# Altium integrated library TI Interface Isolator.IntLib: 140 symbols (part 1 of 6)
Pins are listed as number, name and electrical type; pins without a type are passive.

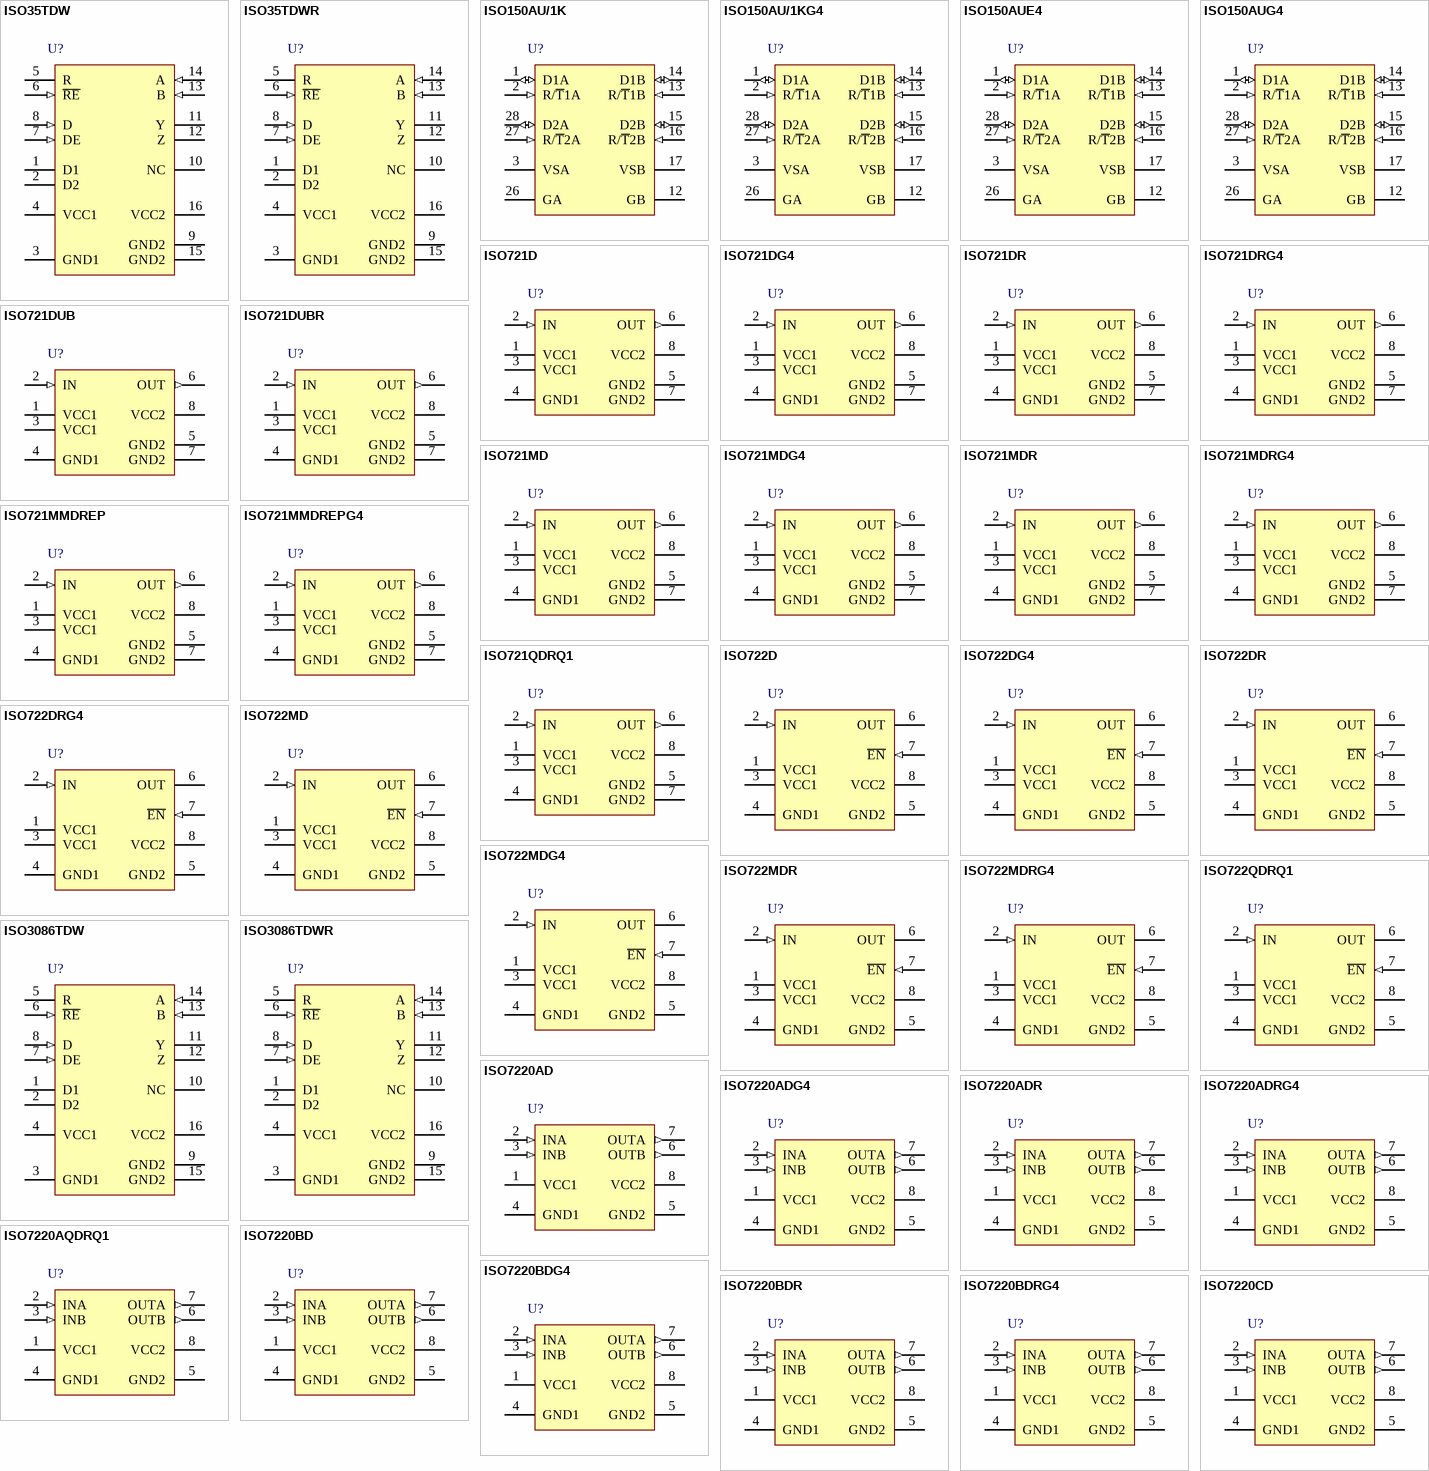
[diagram p0: symbols ISO35TDW to ISO7220CD]

## ISO35TDW
designator U?
1 Mbps Isolated 3 V 485 Transceiver with Integrated Transformer Driver, 3.3 V, -40 to +85 degC, 16-pin SOIC (DW), Green (RoHS & no Sb/Br); Manufacturer: Texas Instruments; PartNumber: ISO35TDW; # of TX/RX: 1 TX / 1 RX; Datarate(Mbps): 1; Duplex: Full; ESD(kV): 16; Fail Safe: Idle, Open, Short; Fault Protection(V): -9 to 14; ICC(Max)(mA): 27; Insulation Rating(VRMS): 2500; Isolated: Yes; Number of Nodes: 256; Rating: Catalog; SubFamily: Isolator; Supply Voltage(s)(V): 3.3; TTL/CMOS Input Threshold: TTL; VCC(Max)(V): 3.6; VCC(Min)(V): 3; DatasheetVersion: SLLSE26C; PackageVersion: 4040000-2/G, 01/2011; PackageReference: DW0016A; PackageDescription: 16-Pin Plastic Small Outline, Body 10.30 x 7.50 mm, Pitch 1.27 mm; Supplier 1: Digi-Key; Supplier Part Number 1: 296-28360-5-ND; Supplier 2: Newark; Supplier Part Number 2: 40T4824; Supplier 3: Mouser; Supplier Part Number 3: 595-ISO35TDW; Thermal Shutdown: Yes; MountType: SMT; Code_JEDEC: MS-013; ComponentLink1Description: Manufacturer URL; ComponentLink1URL: http://www.ti.com/; ComponentLink2Description: Datasheet; ComponentLink2URL: http://www.ti.com/general/docs/lit/getliterature.tsp?genericPartNumber=ISO35T&fileType=pdf; ComponentLink3Description: Package Specification; ComponentLink3URL: http://www.ti.com/litv/pdf/msoi003g; ComponentLink4Description: SamplesURL; ComponentLink4URL: http://www.ti.com/product/iso35t#samples
footprint DW0016A_N (SOIC, 16-Leads, Body 10.5x7.6mm, Pitch 1.27mm, IPC Medium Density)
footprint DW0016A_L (SOIC, 16-Leads, Body 10.5x7.6mm, Pitch 1.27mm, IPC High Density)
footprint DW0016A_M (SOIC, 16-Leads, Body 10.5x7.6mm, Pitch 1.27mm, IPC Low Density)
pins: 1 D1 (oc) "Transformer Driver Terminal 1, Open Drain Output", 2 D2 (oc) "Transformer Driver Terminal 2, Open Drain Output", 3 GND1 (power) "Logic-side Ground", 4 VCC1 (power) "Logic-side Power Supply", 5 R (hiz) "Receiver Output", 6 ~{RE} (in) "Receiver Enable Input. This pin has complementary logic.", 7 DE (in) "Driver Enable Input", 8 D (in) "Driver Input", 9 GND2 (power) "Bus-side Ground. Both pins are internally connected.", 10 NC "No Connect. This pin is not connected to any internal circuitry.", 11 Y (hiz) "Non-inverting Driver Output", 12 Z (hiz) "Inverting Driver Output", 13 B (in) "Inverting Receiver Input", 14 A (in) "Non-inverting Receiver Input", 15 GND2 (power) "Bus-side Ground. Both pins are internally connected.", 16 VCC2 (power) "Bus-side Power Supply"

## ISO35TDWR
designator U?
1 Mbps Isolated 3 V 485 Transceiver with Integrated Transformer Driver, 3.3 V, -40 to +85 degC, 16-pin SOIC (DW), Green (RoHS & no Sb/Br); Manufacturer: Texas Instruments; PartNumber: ISO35TDWR; # of TX/RX: 1 TX / 1 RX; Datarate(Mbps): 1; Duplex: Full; ESD(kV): 16; Fail Safe: Idle, Open, Short; Fault Protection(V): -9 to 14; ICC(Max)(mA): 27; Insulation Rating(VRMS): 2500; Isolated: Yes; Number of Nodes: 256; Rating: Catalog; SubFamily: Isolator; Supply Voltage(s)(V): 3.3; TTL/CMOS Input Threshold: TTL; VCC(Max)(V): 3.6; VCC(Min)(V): 3; DatasheetVersion: SLLSE26C; PackageVersion: 4040000-2/G, 01/2011; PackageReference: DW0016A; PackageDescription: 16-Pin Plastic Small Outline, Body 10.30 x 7.50 mm, Pitch 1.27 mm; Supplier 1: Digi-Key; Supplier Part Number 1: ISO35TDWR-ND; Supplier 2: Newark; Supplier Part Number 2: 40T4825; Supplier 3: Mouser; Supplier Part Number 3: 595-ISO35TDWR; Thermal Shutdown: Yes; MountType: SMT; Code_JEDEC: MS-013; ComponentLink1Description: Manufacturer URL; ComponentLink1URL: http://www.ti.com/; ComponentLink2Description: Datasheet; ComponentLink2URL: http://www.ti.com/general/docs/lit/getliterature.tsp?genericPartNumber=ISO35T&fileType=pdf; ComponentLink3Description: Package Specification; ComponentLink3URL: http://www.ti.com/litv/pdf/msoi003g; ComponentLink4Description: SamplesURL; ComponentLink4URL: http://www.ti.com/product/iso35t#samples
footprint DW0016A_N (SOIC, 16-Leads, Body 10.5x7.6mm, Pitch 1.27mm, IPC Medium Density)
footprint DW0016A_L (SOIC, 16-Leads, Body 10.5x7.6mm, Pitch 1.27mm, IPC High Density)
footprint DW0016A_M (SOIC, 16-Leads, Body 10.5x7.6mm, Pitch 1.27mm, IPC Low Density)
pins: 1 D1 (oc) "Transformer Driver Terminal 1, Open Drain Output", 2 D2 (oc) "Transformer Driver Terminal 2, Open Drain Output", 3 GND1 (power) "Logic-side Ground", 4 VCC1 (power) "Logic-side Power Supply", 5 R (hiz) "Receiver Output", 6 ~{RE} (in) "Receiver Enable Input. This pin has complementary logic.", 7 DE (in) "Driver Enable Input", 8 D (in) "Driver Input", 9 GND2 (power) "Bus-side Ground. Both pins are internally connected.", 10 NC "No Connect. This pin is not connected to any internal circuitry.", 11 Y (hiz) "Non-inverting Driver Output", 12 Z (hiz) "Inverting Driver Output", 13 B (in) "Inverting Receiver Input", 14 A (in) "Non-inverting Receiver Input", 15 GND2 (power) "Bus-side Ground. Both pins are internally connected.", 16 VCC2 (power) "Bus-side Power Supply"

## ISO150AU/1K
designator U?
80 Mbps Dual, Isolated, Bi-Directional Digital Coupler, 5 V, 12-pin SOP (DVB), Green (RoHS & no Sb/Br); Manufacturer: Texas Instruments; PartNumber: ISO150AU/1K; Datarate(Mbps): 80; Input Noise Filter: None; Insulation Rating(VRMS): 1500; Prop Delay(Max)(ns): 40; Rating: Catalog; SubFamily: Isolator; Supply Voltage(s)(V): 5; TTL/CMOS Input Threshold: TTL; DatasheetVersion: SBOS032D; PackageVersion: 4202104/B, 11/2001; PackageReference: DVB0012A; PackageDescription: 12-Pin Plastic Small Outline, Body 17.9 x 7.5 mm; Supplier 1: Digi-Key; Supplier Part Number 1: 296-28835-2-ND; Supplier 2: Digi-Key; Supplier Part Number 2: 296-28835-1-ND; Supplier 3: Digi-Key; Supplier Part Number 3: 296-28835-6-ND; Supplier 4: Newark; Supplier Part Number 4: 32H5680; Supplier 5: Mouser; Supplier Part Number 5: 595-ISO150AU/1K; Thermal Shutdown: No; MountType: SMT; Code_JEDEC: MS-013-AE; ComponentLink1Description: Manufacturer URL; ComponentLink1URL: http://www.ti.com/; ComponentLink2Description: Datasheet; ComponentLink2URL: http://www.ti.com/general/docs/lit/getliterature.tsp?genericPartNumber=ISO150&fileType=pdf; ComponentLink3Description: Package Specification; ComponentLink3URL: http://www.ti.com/lit/ml/mpds106a/mpds106a.pdf; ComponentLink4Description: SamplesURL; ComponentLink4URL: http://www.ti.com/product/iso150#samples
footprint DVB0012A_N (SOP, 12-Leads, Body 17.9x7.5mm, Pitch 1.27mm, IPC Medium Density)
footprint DVB0012A_L (SOP, 12-Leads, Body 17.9x7.5mm, Pitch 1.27mm, IPC High Density)
footprint DVB0012A_M (SOP, 12-Leads, Body 17.9x7.5mm, Pitch 1.27mm, IPC Low Density)
pins: 1 D1A (io) "Data in or data out for transceiver 1A, R/T\1\A \held low makes D1A an input pin", 2 R/~{T}1A (in) "Receive/transmit switch controlling transceiver 1A.", 3 VSA (power) "+5V supply pin for side A, which powers transceivers 1A and 2A.", 12 GB (power) "Ground pin for transceivers 1B and 2B.", 13 R/~{T}1B (in) "Receive/transmit switch controlling transceiver 1B.", 14 D1B (io) "Data in or data out for transceiver 1B. R/T\1\B\ held LOW makes D1B an input pin.", 15 D2B (io) "Data in or data out for transceiver 2B. R/T\2\B\ held LOW makes D2B an input pin.", 16 R/~{T}2B (in) "Receive/transmit switch controlling D2B.", 17 VSB (power) "+5V supply pin for side B, which powers transceivers 1B and 2B.", 26 GA (power) "Ground pin for transceivers 1A and 2A.", 27 R/~{T}2A (in) "Receive/transmit switch controlling transceiver 2A.", 28 D2A (io) "Data in or data out for transceiver 2A, R/T\2\1\A \held low makes D2A an input pin"

## ISO150AU/1KG4
designator U?
Dual, Isolated, Bi-Directional Digital Coupler, 80 Mbps, 5 V, -40 to +85 degC, 12-pin SOP (DVB), Green (RoHS & no Sb/Br); Manufacturer: Texas Instruments; PartNumber: ISO150AU/1KG4; Datarate(Mbps): 80; Input Noise Filter: None; Insulation Rating(VRMS): 1500; Prop Delay(Max)(ns): 40; Rating: Catalog; SubFamily: Isolator; Supply Voltage(s)(V): 5; TTL/CMOS Input Threshold: TTL; DatasheetVersion: SBOS032D; PackageVersion: 4202104/B, 11/2001; PackageReference: DVB0012A; PackageDescription: 12-Pin Plastic Small Outline, Body 17.9 x 7.5 mm; Supplier 1: Digi-Key; Supplier Part Number 1: ISO150AU/1KG4-ND; Supplier 2: Mouser; Supplier Part Number 2: 595-ISO150AU/1KG4; Thermal Shutdown: No; MountType: SMT; Code_JEDEC: MS-013-AE; ComponentLink1Description: Manufacturer URL; ComponentLink1URL: http://www.ti.com/; ComponentLink2Description: Datasheet; ComponentLink2URL: http://www.ti.com/general/docs/lit/getliterature.tsp?genericPartNumber=ISO150&fileType=pdf; ComponentLink3Description: Package Specification; ComponentLink3URL: http://www.ti.com/lit/ml/mpds106a/mpds106a.pdf; ComponentLink4Description: SamplesURL; ComponentLink4URL: http://www.ti.com/product/iso150#samples
footprint DVB0012A_N (SOP, 12-Leads, Body 17.9x7.5mm, Pitch 1.27mm, IPC Medium Density)
footprint DVB0012A_L (SOP, 12-Leads, Body 17.9x7.5mm, Pitch 1.27mm, IPC High Density)
footprint DVB0012A_M (SOP, 12-Leads, Body 17.9x7.5mm, Pitch 1.27mm, IPC Low Density)
pins: 1 D1A (io) "Data in or data out for transceiver 1A, R/T\1\A \held low makes D1A an input pin", 2 R/~{T}1A (in) "Receive/transmit switch controlling transceiver 1A.", 3 VSA (power) "+5V supply pin for side A, which powers transceivers 1A and 2A.", 12 GB (power) "Ground pin for transceivers 1B and 2B.", 13 R/~{T}1B (in) "Receive/transmit switch controlling transceiver 1B.", 14 D1B (io) "Data in or data out for transceiver 1B. R/T\1\B\ held LOW makes D1B an input pin.", 15 D2B (io) "Data in or data out for transceiver 2B. R/T\2\B\ held LOW makes D2B an input pin.", 16 R/~{T}2B (in) "Receive/transmit switch controlling D2B.", 17 VSB (power) "+5V supply pin for side B, which powers transceivers 1B and 2B.", 26 GA (power) "Ground pin for transceivers 1A and 2A.", 27 R/~{T}2A (in) "Receive/transmit switch controlling transceiver 2A.", 28 D2A (io) "Data in or data out for transceiver 2A, R/T\2\1\A \held low makes D2A an input pin"

## ISO150AUE4
designator U?
Dual, Isolated, Bi-Directional Digital Coupler, 80 Mbps, 5 V, -40 to +85 degC, 12-pin SOP (DVB), Green (RoHS & no Sb/Br); Manufacturer: Texas Instruments; PartNumber: ISO150AUE4; Datarate(Mbps): 80; Input Noise Filter: None; Insulation Rating(VRMS): 1500; Prop Delay(Max)(ns): 40; Rating: Catalog; SubFamily: Isolator; Supply Voltage(s)(V): 5; TTL/CMOS Input Threshold: TTL; DatasheetVersion: SBOS032D; PackageVersion: 4202104/B, 11/2001; PackageReference: DVB0012A; PackageDescription: 12-Pin Plastic Small Outline, Body 17.9 x 7.5 mm; Supplier 1: Digi-Key; Supplier Part Number 1: ISO150AUE4-ND; Supplier 2: Mouser; Supplier Part Number 2: 595-ISO150AUE4; Thermal Shutdown: No; MountType: SMT; Code_JEDEC: MS-013-AE; ComponentLink1Description: Manufacturer URL; ComponentLink1URL: http://www.ti.com/; ComponentLink2Description: Datasheet; ComponentLink2URL: http://www.ti.com/general/docs/lit/getliterature.tsp?genericPartNumber=ISO150&fileType=pdf; ComponentLink3Description: Package Specification; ComponentLink3URL: http://www.ti.com/lit/ml/mpds106a/mpds106a.pdf; ComponentLink4Description: SamplesURL; ComponentLink4URL: http://www.ti.com/product/iso150#samples
footprint DVB0012A_N (SOP, 12-Leads, Body 17.9x7.5mm, Pitch 1.27mm, IPC Medium Density)
footprint DVB0012A_L (SOP, 12-Leads, Body 17.9x7.5mm, Pitch 1.27mm, IPC High Density)
footprint DVB0012A_M (SOP, 12-Leads, Body 17.9x7.5mm, Pitch 1.27mm, IPC Low Density)
pins: 1 D1A (io) "Data in or data out for transceiver 1A, R/T\1\A \held low makes D1A an input pin", 2 R/~{T}1A (in) "Receive/transmit switch controlling transceiver 1A.", 3 VSA (power) "+5V supply pin for side A, which powers transceivers 1A and 2A.", 12 GB (power) "Ground pin for transceivers 1B and 2B.", 13 R/~{T}1B (in) "Receive/transmit switch controlling transceiver 1B.", 14 D1B (io) "Data in or data out for transceiver 1B. R/T\1\B\ held LOW makes D1B an input pin.", 15 D2B (io) "Data in or data out for transceiver 2B. R/T\2\B\ held LOW makes D2B an input pin.", 16 R/~{T}2B (in) "Receive/transmit switch controlling D2B.", 17 VSB (power) "+5V supply pin for side B, which powers transceivers 1B and 2B.", 26 GA (power) "Ground pin for transceivers 1A and 2A.", 27 R/~{T}2A (in) "Receive/transmit switch controlling transceiver 2A.", 28 D2A (io) "Data in or data out for transceiver 2A, R/T\2\1\A \held low makes D2A an input pin"

## ISO150AUG4
designator U?
Dual, Isolated, Bi-Directional Digital Coupler, 80 Mbps, 5 V, -40 to +85 degC, 12-pin SOP (DVB), Green (RoHS & no Sb/Br); Manufacturer: Texas Instruments; PartNumber: ISO150AUG4; Datarate(Mbps): 80; Input Noise Filter: None; Insulation Rating(VRMS): 1500; Prop Delay(Max)(ns): 40; Rating: Catalog; SubFamily: Isolator; Supply Voltage(s)(V): 5; TTL/CMOS Input Threshold: TTL; DatasheetVersion: SBOS032D; PackageVersion: 4202104/B, 11/2001; PackageReference: DVB0012A; PackageDescription: 12-Pin Plastic Small Outline, Body 17.9 x 7.5 mm; Supplier 1: Digi-Key; Supplier Part Number 1: ISO150AUG4-ND; Supplier 2: Farnell; Supplier Part Number 2: 1206917; Supplier 3: Newark; Supplier Part Number 3: 97K2531; Supplier 4: Newark; Supplier Part Number 4: 40K6952; Supplier 5: Mouser; Supplier Part Number 5: 595-ISO150AUG4; Thermal Shutdown: No; MountType: SMT; Code_JEDEC: MS-013-AE; ComponentLink1Description: Manufacturer URL; ComponentLink1URL: http://www.ti.com/; ComponentLink2Description: Datasheet; ComponentLink2URL: http://www.ti.com/general/docs/lit/getliterature.tsp?genericPartNumber=ISO150&fileType=pdf; ComponentLink3Description: Package Specification; ComponentLink3URL: http://www.ti.com/lit/ml/mpds106a/mpds106a.pdf; ComponentLink4Description: SamplesURL; ComponentLink4URL: http://www.ti.com/product/iso150#samples
footprint DVB0012A_N (SOP, 12-Leads, Body 17.9x7.5mm, Pitch 1.27mm, IPC Medium Density)
footprint DVB0012A_L (SOP, 12-Leads, Body 17.9x7.5mm, Pitch 1.27mm, IPC High Density)
footprint DVB0012A_M (SOP, 12-Leads, Body 17.9x7.5mm, Pitch 1.27mm, IPC Low Density)
pins: 1 D1A (io) "Data in or data out for transceiver 1A, R/T\1\A \held low makes D1A an input pin", 2 R/~{T}1A (in) "Receive/transmit switch controlling transceiver 1A.", 3 VSA (power) "+5V supply pin for side A, which powers transceivers 1A and 2A.", 12 GB (power) "Ground pin for transceivers 1B and 2B.", 13 R/~{T}1B (in) "Receive/transmit switch controlling transceiver 1B.", 14 D1B (io) "Data in or data out for transceiver 1B. R/T\1\B\ held LOW makes D1B an input pin.", 15 D2B (io) "Data in or data out for transceiver 2B. R/T\2\B\ held LOW makes D2B an input pin.", 16 R/~{T}2B (in) "Receive/transmit switch controlling D2B.", 17 VSB (power) "+5V supply pin for side B, which powers transceivers 1B and 2B.", 26 GA (power) "Ground pin for transceivers 1A and 2A.", 27 R/~{T}2A (in) "Receive/transmit switch controlling transceiver 2A.", 28 D2A (io) "Data in or data out for transceiver 2A, R/T\2\1\A \held low makes D2A an input pin"

## ISO721D
designator U?
100 Mbps Single Digital Isolator, 3.3 V / 5 V, -40 to +125 degC, 8-pin SOIC (D), Green (RoHS & no Sb/Br); Manufacturer: Texas Instruments; PartNumber: ISO721D; Datarate(Mbps): 100; Input Noise Filter: Yes; Insulation Rating(VRMS): 2500; Prop Delay(Max)(ns): 24; Rating: Catalog; Supply Voltage(s)(V): 3.3, 5; TTL/CMOS Input Threshold: TTL; DatasheetVersion: SLLS629J; PackageVersion: 4040047-3/M, 06/2011; PackageReference: D0008A; PackageDescription: 8-Pin Plastic Small Outline, Body 4.9 x 3.9 mm, Pitch 1.27 mm; Supplier 1: Digi-Key; Supplier Part Number 1: 296-19382-ND; Supplier 2: Farnell; Supplier Part Number 2: 1273094; Supplier 3: Newark; Supplier Part Number 3: 74K5333; Supplier 4: Mouser; Supplier Part Number 4: 595-ISO721D; Eco-Plan: Green (RoHS & no Sb/Br); SubFamily: Isolator; Thermal Shutdown: No; MountType: SMT; Code_JEDEC: MS-012; ComponentLink1Description: Manufacturer URL; ComponentLink1URL: http://www.ti.com/; ComponentLink2Description: Datasheet; ComponentLink2URL: http://www.ti.com/general/docs/lit/getliterature.tsp?genericPartNumber=ISO721&fileType=pdf; ComponentLink3Description: Package Specification; ComponentLink3URL: http://www.ti.com/litv/pdf/msoi002j; ComponentLink4Description: SamplesURL; ComponentLink4URL: http://www.ti.com/product/iso721#samples
footprint D0008A_N (SOIC, 8-Leads, Body 5x4mm, Pitch 1.27mm, IPC Medium Density)
footprint D0008A_L (SOIC, 8-Leads, Body 5x4mm, Pitch 1.27mm, IPC High Density)
footprint D0008A_M (SOIC, 8-Leads, Body 5x4mm, Pitch 1.27mm, IPC Low Density)
pins: 1 VCC1 (power), 2 IN (in), 3 VCC1 (power), 4 GND1 (power), 5 GND2 (power), 6 OUT (out), 7 GND2 (power), 8 VCC2 (power)

## ISO721DG4
designator U?
100 Mbps Single Digital Isolator, 3.3 V / 5 V, -40 to +125 degC, 8-pin SOIC (D), Green (RoHS & no Sb/Br); Manufacturer: Texas Instruments; PartNumber: ISO721DG4; Datarate(Mbps): 100; Input Noise Filter: Yes; Insulation Rating(VRMS): 2500; Prop Delay(Max)(ns): 24; Rating: Catalog; Supply Voltage(s)(V): 3.3, 5; TTL/CMOS Input Threshold: TTL; DatasheetVersion: SLLS629J; PackageVersion: 4040047-3/M, 06/2011; PackageReference: D0008A; PackageDescription: 8-Pin Plastic Small Outline, Body 4.9 x 3.9 mm, Pitch 1.27 mm; Supplier 1: Digi-Key; Supplier Part Number 1: ISO721DG4-ND; Supplier 2: Farnell; Supplier Part Number 2: 1390642; Supplier 3: Newark; Supplier Part Number 3: 61M6986; Supplier 4: Newark; Supplier Part Number 4: 80K2281; Supplier 5: Mouser; Supplier Part Number 5: 595-ISO721DG4; Eco-Plan: Green (RoHS & no Sb/Br); SubFamily: Isolator; Thermal Shutdown: No; MountType: SMT; Code_JEDEC: MS-012; ComponentLink1Description: Manufacturer URL; ComponentLink1URL: http://www.ti.com/; ComponentLink2Description: Datasheet; ComponentLink2URL: http://www.ti.com/general/docs/lit/getliterature.tsp?genericPartNumber=ISO721&fileType=pdf; ComponentLink3Description: Package Specification; ComponentLink3URL: http://www.ti.com/litv/pdf/msoi002j; ComponentLink4Description: SamplesURL; ComponentLink4URL: http://www.ti.com/product/iso721#samples
footprint D0008A_N (SOIC, 8-Leads, Body 5x4mm, Pitch 1.27mm, IPC Medium Density)
footprint D0008A_L (SOIC, 8-Leads, Body 5x4mm, Pitch 1.27mm, IPC High Density)
footprint D0008A_M (SOIC, 8-Leads, Body 5x4mm, Pitch 1.27mm, IPC Low Density)
pins: 1 VCC1 (power), 2 IN (in), 3 VCC1 (power), 4 GND1 (power), 5 GND2 (power), 6 OUT (out), 7 GND2 (power), 8 VCC2 (power)

## ISO721DR
designator U?
100 Mbps Single Digital Isolator, 3.3 V / 5 V, -40 to +125 degC, 8-pin SOIC (D), Green (RoHS & no Sb/Br); Manufacturer: Texas Instruments; PartNumber: ISO721DR; Datarate(Mbps): 100; Input Noise Filter: Yes; Insulation Rating(VRMS): 2500; Prop Delay(Max)(ns): 24; Rating: Catalog; Supply Voltage(s)(V): 3.3, 5; TTL/CMOS Input Threshold: TTL; DatasheetVersion: SLLS629J; PackageVersion: 4040047-3/M, 06/2011; PackageReference: D0008A; PackageDescription: 8-Pin Plastic Small Outline, Body 4.9 x 3.9 mm, Pitch 1.27 mm; Supplier 1: Digi-Key; Supplier Part Number 1: ISO721DR-ND; Supplier 2: Newark; Supplier Part Number 2: 74K5334; Supplier 3: Mouser; Supplier Part Number 3: 595-ISO721DR; Eco-Plan: Green (RoHS & no Sb/Br); SubFamily: Isolator; Thermal Shutdown: No; MountType: SMT; Code_JEDEC: MS-012; ComponentLink1Description: Manufacturer URL; ComponentLink1URL: http://www.ti.com/; ComponentLink2Description: Datasheet; ComponentLink2URL: http://www.ti.com/general/docs/lit/getliterature.tsp?genericPartNumber=ISO721&fileType=pdf; ComponentLink3Description: Package Specification; ComponentLink3URL: http://www.ti.com/litv/pdf/msoi002j; ComponentLink4Description: SamplesURL; ComponentLink4URL: http://www.ti.com/product/iso721#samples
footprint D0008A_N (SOIC, 8-Leads, Body 5x4mm, Pitch 1.27mm, IPC Medium Density)
footprint D0008A_L (SOIC, 8-Leads, Body 5x4mm, Pitch 1.27mm, IPC High Density)
footprint D0008A_M (SOIC, 8-Leads, Body 5x4mm, Pitch 1.27mm, IPC Low Density)
pins: 1 VCC1 (power), 2 IN (in), 3 VCC1 (power), 4 GND1 (power), 5 GND2 (power), 6 OUT (out), 7 GND2 (power), 8 VCC2 (power)

## ISO721DRG4
designator U?
100 Mbps Single Digital Isolator, 3.3 V / 5 V, -40 to +125 degC, 8-pin SOIC (D), Green (RoHS & no Sb/Br); Manufacturer: Texas Instruments; PartNumber: ISO721DRG4; Datarate(Mbps): 100; Input Noise Filter: Yes; Insulation Rating(VRMS): 2500; Prop Delay(Max)(ns): 24; Rating: Catalog; Supply Voltage(s)(V): 3.3, 5; TTL/CMOS Input Threshold: TTL; DatasheetVersion: SLLS629J; PackageVersion: 4040047-3/M, 06/2011; PackageReference: D0008A; PackageDescription: 8-Pin Plastic Small Outline, Body 4.9 x 3.9 mm, Pitch 1.27 mm; Supplier 1: Digi-Key; Supplier Part Number 1: ISO721DRG4-ND; Supplier 2: Mouser; Supplier Part Number 2: 595-ISO721DRG4; Eco-Plan: Green (RoHS & no Sb/Br); SubFamily: Isolator; Thermal Shutdown: No; MountType: SMT; Code_JEDEC: MS-012; ComponentLink1Description: Manufacturer URL; ComponentLink1URL: http://www.ti.com/; ComponentLink2Description: Datasheet; ComponentLink2URL: http://www.ti.com/general/docs/lit/getliterature.tsp?genericPartNumber=ISO721&fileType=pdf; ComponentLink3Description: Package Specification; ComponentLink3URL: http://www.ti.com/litv/pdf/msoi002j; ComponentLink4Description: SamplesURL; ComponentLink4URL: http://www.ti.com/product/iso721#samples
footprint D0008A_N (SOIC, 8-Leads, Body 5x4mm, Pitch 1.27mm, IPC Medium Density)
footprint D0008A_L (SOIC, 8-Leads, Body 5x4mm, Pitch 1.27mm, IPC High Density)
footprint D0008A_M (SOIC, 8-Leads, Body 5x4mm, Pitch 1.27mm, IPC Low Density)
pins: 1 VCC1 (power), 2 IN (in), 3 VCC1 (power), 4 GND1 (power), 5 GND2 (power), 6 OUT (out), 7 GND2 (power), 8 VCC2 (power)

## ISO721DUB
designator U?
100 Mbps Single Digital Isolator, 3.3 V / 5 V, -40 to +125 degC, 8-pin SOP (DUB), Green (RoHS & no Sb/Br); Manufacturer: Texas Instruments; PartNumber: ISO721DUB; Datarate(Mbps): 100; Input Noise Filter: Yes; Insulation Rating(VRMS): 2500; Prop Delay(Max)(ns): 24; Rating: Catalog; Supply Voltage(s)(V): 3.3, 5; TTL/CMOS Input Threshold: TTL; DatasheetVersion: SLLS629J; PackageVersion: 4207614/C, 05/2006; PackageReference: DUB0008A; PackageDescription: 8-Pin Plastic Small Outline, Body 9.5 x 6.62 mm, Pitch 2.54 mm; Supplier 1: Digi-Key; Supplier Part Number 1: ISO721DUB-ND; Supplier 2: Newark; Supplier Part Number 2: 24R9142; Supplier 3: Mouser; Supplier Part Number 3: 595-ISO721DUB; Eco-Plan: Green (RoHS & no Sb/Br); SubFamily: Isolator; Thermal Shutdown: No; MountType: SMT; ComponentLink1Description: Manufacturer URL; ComponentLink1URL: http://www.ti.com/; ComponentLink2Description: Datasheet; ComponentLink2URL: http://www.ti.com/general/docs/lit/getliterature.tsp?genericPartNumber=ISO721&fileType=pdf; ComponentLink3Description: Package Specification; ComponentLink3URL: http://www.ti.com/lit/ml/mpds247b/mpds247b.pdf; ComponentLink4Description: SamplesURL; ComponentLink4URL: http://www.ti.com/product/iso721#samples
footprint DUB0008A_N (SOP, 8-Leads, Body 9.5x6.62mm, Pitch 2.54mm, IPC Medium Density)
footprint DUB0008A_L (SOP, 8-Leads, Body 9.5x6.62mm, Pitch 2.54mm, IPC High Density)
footprint DUB0008A_M (SOP, 8-Leads, Body 9.5x6.62mm, Pitch 2.54mm, IPC Low Density)
pins: 1 VCC1 (power), 2 IN (in), 3 VCC1 (power), 4 GND1 (power), 5 GND2 (power), 6 OUT (out), 7 GND2 (power), 8 VCC2 (power)

## ISO721DUBR
designator U?
100 Mbps Single Digital Isolator, 3.3 V / 5 V, -40 to +125 degC, 8-pin SOP (DUB), Green (RoHS & no Sb/Br); Manufacturer: Texas Instruments; PartNumber: ISO721DUBR; Datarate(Mbps): 100; Input Noise Filter: Yes; Insulation Rating(VRMS): 2500; Prop Delay(Max)(ns): 24; Rating: Catalog; Supply Voltage(s)(V): 3.3, 5; TTL/CMOS Input Threshold: TTL; DatasheetVersion: SLLS629J; PackageVersion: 4207614/C, 05/2006; PackageReference: DUB0008A; PackageDescription: 8-Pin Plastic Small Outline, Body 9.5 x 6.62 mm, Pitch 2.54 mm; Supplier 1: Digi-Key; Supplier Part Number 1: 296-24819-2-ND; Supplier 2: Digi-Key; Supplier Part Number 2: 296-24819-1-ND; Supplier 3: Digi-Key; Supplier Part Number 3: 296-24819-6-ND; Supplier 4: Newark; Supplier Part Number 4: 24R9143; Supplier 5: Mouser; Supplier Part Number 5: 595-ISO721DUBR; Eco-Plan: Green (RoHS & no Sb/Br); SubFamily: Isolator; Thermal Shutdown: No; MountType: SMT; ComponentLink1Description: Manufacturer URL; ComponentLink1URL: http://www.ti.com/; ComponentLink2Description: Datasheet; ComponentLink2URL: http://www.ti.com/general/docs/lit/getliterature.tsp?genericPartNumber=ISO721&fileType=pdf; ComponentLink3Description: Package Specification; ComponentLink3URL: http://www.ti.com/lit/ml/mpds247b/mpds247b.pdf; ComponentLink4Description: SamplesURL; ComponentLink4URL: http://www.ti.com/product/iso721#samples
footprint DUB0008A_N (SOP, 8-Leads, Body 9.5x6.62mm, Pitch 2.54mm, IPC Medium Density)
footprint DUB0008A_L (SOP, 8-Leads, Body 9.5x6.62mm, Pitch 2.54mm, IPC High Density)
footprint DUB0008A_M (SOP, 8-Leads, Body 9.5x6.62mm, Pitch 2.54mm, IPC Low Density)
pins: 1 VCC1 (power), 2 IN (in), 3 VCC1 (power), 4 GND1 (power), 5 GND2 (power), 6 OUT (out), 7 GND2 (power), 8 VCC2 (power)

## ISO721MD
designator U?
150 Mbps Single Channel, Digital Isolator, 3.3 V / 5 V, -40 to +125 degC, 8-pin SOIC (D), Green (RoHS & no Sb/Br); Manufacturer: Texas Instruments; PartNumber: ISO721MD; Datarate(Mbps): 150; Input Noise Filter: None; Insulation Rating(VRMS): 2500; Prop Delay(Max)(ns): 16; Rating: Catalog; Supply Voltage(s)(V): 3.3, 5; TTL/CMOS Input Threshold: CMOS; DatasheetVersion: SLLS629J; PackageVersion: 4040047-3/M, 06/2011; PackageReference: D0008A; PackageDescription: 8-Pin Plastic Small Outline, Body 4.9 x 3.9 mm, Pitch 1.27 mm; Supplier 1: Digi-Key; Supplier Part Number 1: 296-19381-ND; Supplier 2: Farnell; Supplier Part Number 2: 1470397; Supplier 3: Newark; Supplier Part Number 3: 74K5335; Supplier 4: Mouser; Supplier Part Number 4: 595-ISO721MD; Eco-Plan: Green (RoHS & no Sb/Br); SubFamily: Isolator; Thermal Shutdown: No; MountType: SMT; Code_JEDEC: MS-012; ComponentLink1Description: Manufacturer URL; ComponentLink1URL: http://www.ti.com/; ComponentLink2Description: Datasheet; ComponentLink2URL: http://www.ti.com/general/docs/lit/getliterature.tsp?genericPartNumber=ISO721M&fileType=pdf; ComponentLink3Description: Package Specification; ComponentLink3URL: http://www.ti.com/litv/pdf/msoi002j; ComponentLink4Description: SamplesURL; ComponentLink4URL: http://www.ti.com/product/iso721m#samples
footprint D0008A_N (SOIC, 8-Leads, Body 5x4mm, Pitch 1.27mm, IPC Medium Density)
footprint D0008A_L (SOIC, 8-Leads, Body 5x4mm, Pitch 1.27mm, IPC High Density)
footprint D0008A_M (SOIC, 8-Leads, Body 5x4mm, Pitch 1.27mm, IPC Low Density)
pins: 1 VCC1 (power), 2 IN (in), 3 VCC1 (power), 4 GND1 (power), 5 GND2 (power), 6 OUT (out), 7 GND2 (power), 8 VCC2 (power)

## ISO721MDG4
designator U?
150 Mbps Single Channel, Digital Isolator, 3.3 V / 5 V, -40 to +125 degC, 8-pin SOIC (D), Green (RoHS & no Sb/Br); Manufacturer: Texas Instruments; PartNumber: ISO721MDG4; Datarate(Mbps): 150; Input Noise Filter: None; Insulation Rating(VRMS): 2500; Prop Delay(Max)(ns): 16; Rating: Catalog; Supply Voltage(s)(V): 3.3, 5; TTL/CMOS Input Threshold: CMOS; DatasheetVersion: SLLS629J; PackageVersion: 4040047-3/M, 06/2011; PackageReference: D0008A; PackageDescription: 8-Pin Plastic Small Outline, Body 4.9 x 3.9 mm, Pitch 1.27 mm; Supplier 1: Digi-Key; Supplier Part Number 1: ISO721MDG4-ND; Supplier 2: Newark; Supplier Part Number 2: 80K2283; Supplier 3: Mouser; Supplier Part Number 3: 595-ISO721MDG4; Eco-Plan: Green (RoHS & no Sb/Br); SubFamily: Isolator; Thermal Shutdown: No; MountType: SMT; Code_JEDEC: MS-012; ComponentLink1Description: Manufacturer URL; ComponentLink1URL: http://www.ti.com/; ComponentLink2Description: Datasheet; ComponentLink2URL: http://www.ti.com/general/docs/lit/getliterature.tsp?genericPartNumber=ISO721M&fileType=pdf; ComponentLink3Description: Package Specification; ComponentLink3URL: http://www.ti.com/litv/pdf/msoi002j; ComponentLink4Description: SamplesURL; ComponentLink4URL: http://www.ti.com/product/iso721m#samples
footprint D0008A_N (SOIC, 8-Leads, Body 5x4mm, Pitch 1.27mm, IPC Medium Density)
footprint D0008A_L (SOIC, 8-Leads, Body 5x4mm, Pitch 1.27mm, IPC High Density)
footprint D0008A_M (SOIC, 8-Leads, Body 5x4mm, Pitch 1.27mm, IPC Low Density)
pins: 1 VCC1 (power), 2 IN (in), 3 VCC1 (power), 4 GND1 (power), 5 GND2 (power), 6 OUT (out), 7 GND2 (power), 8 VCC2 (power)

## ISO721MDR
designator U?
150 Mbps Single Channel, Digital Isolator, 3.3 V / 5 V, -40 to +125 degC, 8-pin SOIC (D), Green (RoHS & no Sb/Br); Manufacturer: Texas Instruments; PartNumber: ISO721MDR; Datarate(Mbps): 150; Input Noise Filter: None; Insulation Rating(VRMS): 2500; Prop Delay(Max)(ns): 16; Rating: Catalog; Supply Voltage(s)(V): 3.3, 5; TTL/CMOS Input Threshold: CMOS; DatasheetVersion: SLLS629J; PackageVersion: 4040047-3/M, 06/2011; PackageReference: D0008A; PackageDescription: 8-Pin Plastic Small Outline, Body 4.9 x 3.9 mm, Pitch 1.27 mm; Supplier 1: Digi-Key; Supplier Part Number 1: ISO721MDR-ND; Supplier 2: Newark; Supplier Part Number 2: 74K5336; Supplier 3: Mouser; Supplier Part Number 3: 595-ISO721MDR; Eco-Plan: Green (RoHS & no Sb/Br); SubFamily: Isolator; Thermal Shutdown: No; MountType: SMT; Code_JEDEC: MS-012; ComponentLink1Description: Manufacturer URL; ComponentLink1URL: http://www.ti.com/; ComponentLink2Description: Datasheet; ComponentLink2URL: http://www.ti.com/general/docs/lit/getliterature.tsp?genericPartNumber=ISO721M&fileType=pdf; ComponentLink3Description: Package Specification; ComponentLink3URL: http://www.ti.com/litv/pdf/msoi002j; ComponentLink4Description: SamplesURL; ComponentLink4URL: http://www.ti.com/product/iso721m#samples
footprint D0008A_N (SOIC, 8-Leads, Body 5x4mm, Pitch 1.27mm, IPC Medium Density)
footprint D0008A_L (SOIC, 8-Leads, Body 5x4mm, Pitch 1.27mm, IPC High Density)
footprint D0008A_M (SOIC, 8-Leads, Body 5x4mm, Pitch 1.27mm, IPC Low Density)
pins: 1 VCC1 (power), 2 IN (in), 3 VCC1 (power), 4 GND1 (power), 5 GND2 (power), 6 OUT (out), 7 GND2 (power), 8 VCC2 (power)

## ISO721MDRG4
designator U?
150 Mbps Single Channel, 1 / 1, Digital Isolator, 3.3 V / 5 V, -40 to +125 degC, 8-pin SOIC (D), Green (RoHS & no Sb/Br); Manufacturer: Texas Instruments; PartNumber: ISO721MDRG4; Datarate(Mbps): 150; Input Noise Filter: None; Insulation Rating(VRMS): 2500; Prop Delay(Max)(ns): 16; Rating: Catalog; Supply Voltage(s)(V): 3.3, 5; TTL/CMOS Input Threshold: CMOS; DatasheetVersion: SLLS629J; PackageVersion: 4040047-3/M, 06/2011; PackageReference: D0008A; PackageDescription: 8-Pin Plastic Small Outline, Body 4.9 x 3.9 mm, Pitch 1.27 mm; Supplier 1: Digi-Key; Supplier Part Number 1: ISO721MDRG4-ND; Supplier 2: Mouser; Supplier Part Number 2: 595-ISO721MDRG4; Eco-Plan: Green (RoHS & no Sb/Br); SubFamily: Isolator; Thermal Shutdown: No; MountType: SMT; Code_JEDEC: MS-012; ComponentLink1Description: Manufacturer URL; ComponentLink1URL: http://www.ti.com/; ComponentLink2Description: Datasheet; ComponentLink2URL: http://www.ti.com/general/docs/lit/getliterature.tsp?genericPartNumber=ISO721M&fileType=pdf; ComponentLink3Description: Package Specification; ComponentLink3URL: http://www.ti.com/litv/pdf/msoi002j; ComponentLink4Description: SamplesURL; ComponentLink4URL: http://www.ti.com/product/iso721m#samples
footprint D0008A_N (SOIC, 8-Leads, Body 5x4mm, Pitch 1.27mm, IPC Medium Density)
footprint D0008A_L (SOIC, 8-Leads, Body 5x4mm, Pitch 1.27mm, IPC High Density)
footprint D0008A_M (SOIC, 8-Leads, Body 5x4mm, Pitch 1.27mm, IPC Low Density)
pins: 1 VCC1 (power), 2 IN (in), 3 VCC1 (power), 4 GND1 (power), 5 GND2 (power), 6 OUT (out), 7 GND2 (power), 8 VCC2 (power)

## ISO721MMDREP
designator U?
150 Mbps Enhanced Product Single Digital Isolator, 3.3 V / 5 V, -55 to +125 degC, 8-pin SOIC (D), Green (RoHS & no Sb/Br); Manufacturer: Texas Instruments; PartNumber: ISO721MMDREP; Datarate(Mbps): 150; Input Noise Filter: None; Insulation Rating(VRMS): 1500; Prop Delay(Max)(ns): 16; Rating: HiRel Enhanced Product; Supply Voltage(s)(V): 3.3, 5; TTL/CMOS Input Threshold: CMOS; DatasheetVersion: SLLS882; PackageVersion: 4040047-3/M, 06/2011; PackageReference: D0008A; PackageDescription: 8-Pin Plastic Small Outline, Body 4.9 x 3.9 mm, Pitch 1.27 mm; Supplier 1: Digi-Key; Supplier Part Number 1: 296-23524-2-ND; Supplier 2: Digi-Key; Supplier Part Number 2: 296-23524-1-ND; Supplier 3: Digi-Key; Supplier Part Number 3: 296-23524-6-ND; Supplier 4: Newark; Supplier Part Number 4: 50R7696; Supplier 5: Mouser; Supplier Part Number 5: 595-ISO721MMDREP; Eco-Plan: Green (RoHS & no Sb/Br); SubFamily: Isolator; Thermal Shutdown: No; MountType: SMT; Code_JEDEC: MS-012; ComponentLink1Description: Manufacturer URL; ComponentLink1URL: http://www.ti.com/; ComponentLink2Description: Datasheet; ComponentLink2URL: http://www.ti.com/general/docs/lit/getliterature.tsp?genericPartNumber=ISO721M-EP&fileType=pdf; ComponentLink3Description: Package Specification; ComponentLink3URL: http://www.ti.com/litv/pdf/msoi002j; ComponentLink4Description: SamplesURL; ComponentLink4URL: http://www.ti.com/product/iso721m-ep#samples
footprint D0008A_N (SOIC, 8-Leads, Body 5x4mm, Pitch 1.27mm, IPC Medium Density)
footprint D0008A_L (SOIC, 8-Leads, Body 5x4mm, Pitch 1.27mm, IPC High Density)
footprint D0008A_M (SOIC, 8-Leads, Body 5x4mm, Pitch 1.27mm, IPC Low Density)
pins: 1 VCC1 (power), 2 IN (in), 3 VCC1 (power), 4 GND1 (power), 5 GND2 (power), 6 OUT (out), 7 GND2 (power), 8 VCC2 (power)

## ISO721MMDREPG4
designator U?
150 Mbps Enhanced Product Single Digital Isolator, 3.3 V / 5 V, -55 to +125 degC, 8-pin SOIC (D), Green (RoHS & no Sb/Br); Manufacturer: Texas Instruments; PartNumber: ISO721MMDREPG4; Datarate(Mbps): 150; Input Noise Filter: None; Insulation Rating(VRMS): 1500; Prop Delay(Max)(ns): 16; Rating: HiRel Enhanced Product; Supply Voltage(s)(V): 3.3, 5; TTL/CMOS Input Threshold: CMOS; DatasheetVersion: SLLS882; PackageVersion: 4040047-3/M, 06/2011; PackageReference: D0008A; PackageDescription: 8-Pin Plastic Small Outline, Body 4.9 x 3.9 mm, Pitch 1.27 mm; Supplier 1: Digi-Key; Supplier Part Number 1: ISO721MMDREPG4-ND; Supplier 2: Mouser; Supplier Part Number 2: 595-ISO721MMDREPG4; Eco-Plan: Green (RoHS & no Sb/Br); SubFamily: Isolator; Thermal Shutdown: No; MountType: SMT; Code_JEDEC: MS-012; ComponentLink1Description: Manufacturer URL; ComponentLink1URL: http://www.ti.com/; ComponentLink2Description: Datasheet; ComponentLink2URL: http://www.ti.com/general/docs/lit/getliterature.tsp?genericPartNumber=ISO721M-EP&fileType=pdf; ComponentLink3Description: Package Specification; ComponentLink3URL: http://www.ti.com/litv/pdf/msoi002j; ComponentLink4Description: SamplesURL; ComponentLink4URL: http://www.ti.com/product/iso721m-ep#samples
footprint D0008A_N (SOIC, 8-Leads, Body 5x4mm, Pitch 1.27mm, IPC Medium Density)
footprint D0008A_L (SOIC, 8-Leads, Body 5x4mm, Pitch 1.27mm, IPC High Density)
footprint D0008A_M (SOIC, 8-Leads, Body 5x4mm, Pitch 1.27mm, IPC Low Density)
pins: 1 VCC1 (power), 2 IN (in), 3 VCC1 (power), 4 GND1 (power), 5 GND2 (power), 6 OUT (out), 7 GND2 (power), 8 VCC2 (power)

## ISO721QDRQ1
designator U?
100 Mbps Automotive Catalog Single Digital Isolator, 3.3 V / 5 V, -40 to +125 degC, 8-pin SOIC (D), Green (RoHS & no Sb/Br); Manufacturer: Texas Instruments; PartNumber: ISO721QDRQ1; Datarate(Mbps): 100; Input Noise Filter: Yes; Insulation Rating(VRMS): 2500; Prop Delay(Max)(ns): 24; Supply Voltage(s)(V): 3.3, 5; TTL/CMOS Input Threshold: TTL; DatasheetVersion: SLLS918A; PackageVersion: 4040047-3/M, 06/2011; PackageReference: D0008A; PackageDescription: 8-Pin Plastic Small Outline, Body 4.9 x 3.9 mm, Pitch 1.27 mm; Supplier 1: Digi-Key; Supplier Part Number 1: 296-23652-2-ND; Supplier 2: Digi-Key; Supplier Part Number 2: 296-23652-1-ND; Supplier 3: Digi-Key; Supplier Part Number 3: 296-23652-6-ND; Supplier 4: Mouser; Supplier Part Number 4: 595-ISO721QDRQ1; Rating: Automotive; Signaling Rate(Mbps): 100; SubFamily: Isolator; Thermal Shutdown: No; MountType: SMT; Code_JEDEC: MS-012; ComponentLink1Description: Manufacturer URL; ComponentLink1URL: http://www.ti.com/; ComponentLink2Description: Datasheet; ComponentLink2URL: http://www.ti.com/general/docs/lit/getliterature.tsp?genericPartNumber=ISO721-Q1&fileType=pdf; ComponentLink3Description: Package Specification; ComponentLink3URL: http://www.ti.com/litv/pdf/msoi002j; ComponentLink4Description: SamplesURL; ComponentLink4URL: http://www.ti.com/product/iso721-q1#samples
footprint D0008A_N (SOIC, 8-Leads, Body 5x4mm, Pitch 1.27mm, IPC Medium Density)
footprint D0008A_L (SOIC, 8-Leads, Body 5x4mm, Pitch 1.27mm, IPC High Density)
footprint D0008A_M (SOIC, 8-Leads, Body 5x4mm, Pitch 1.27mm, IPC Low Density)
pins: 1 VCC1 (power), 2 IN (in), 3 VCC1 (power), 4 GND1 (power), 5 GND2 (power), 6 OUT (out), 7 GND2 (power), 8 VCC2 (power)

## ISO722D
designator U?
100 Mbps Single Digital Isolator with Enable, 3.3 V / 5 V, -40 to +125 degC, 8-pin SOIC (D), Green (RoHS & no Sb/Br); Manufacturer: Texas Instruments; PartNumber: ISO722D; Datarate(Mbps): 100; Input Noise Filter: Yes; Insulation Rating(VRMS): 2500; Prop Delay(Max)(ns): 24; Rating: Catalog; Supply Voltage(s)(V): 3.3, 5; TTL/CMOS Input Threshold: TTL; DatasheetVersion: SLLS629J; PackageVersion: 4040047-3/M, 06/2011; PackageReference: D0008A; PackageDescription: 8-Pin Plastic Small Outline, Body 4.9 x 3.9 mm, Pitch 1.27 mm; Supplier 1: Digi-Key; Supplier Part Number 1: 296-33300-5-ND; Supplier 2: Newark; Supplier Part Number 2: 99K2245; Supplier 3: Mouser; Supplier Part Number 3: 595-ISO722D; Eco-Plan: Green (RoHS & no Sb/Br); SubFamily: Isolator; Thermal Shutdown: No; MountType: SMT; Code_JEDEC: MS-012; ComponentLink1Description: Manufacturer URL; ComponentLink1URL: http://www.ti.com/; ComponentLink2Description: Datasheet; ComponentLink2URL: http://www.ti.com/general/docs/lit/getliterature.tsp?genericPartNumber=ISO722&fileType=pdf; ComponentLink3Description: Package Specification; ComponentLink3URL: http://www.ti.com/litv/pdf/msoi002j; ComponentLink4Description: SamplesURL; ComponentLink4URL: http://www.ti.com/product/iso722#samples
footprint D0008A_N (SOIC, 8-Leads, Body 5x4mm, Pitch 1.27mm, IPC Medium Density)
footprint D0008A_L (SOIC, 8-Leads, Body 5x4mm, Pitch 1.27mm, IPC High Density)
footprint D0008A_M (SOIC, 8-Leads, Body 5x4mm, Pitch 1.27mm, IPC Low Density)
pins: 1 VCC1 (power), 2 IN (in), 3 VCC1 (power), 4 GND1 (power), 5 GND2 (power), 6 OUT (hiz), 7 ~{EN} (in), 8 VCC2 (power)

## ISO722DG4
designator U?
100 Mbps Single Digital Isolator with Enable, 3.3 V / 5 V, -40 to +125 degC, 8-pin SOIC (D), Green (RoHS & no Sb/Br); Manufacturer: Texas Instruments; PartNumber: ISO722DG4; Datarate(Mbps): 100; Input Noise Filter: Yes; Insulation Rating(VRMS): 2500; Prop Delay(Max)(ns): 24; Rating: Catalog; Supply Voltage(s)(V): 3.3, 5; TTL/CMOS Input Threshold: TTL; DatasheetVersion: SLLS629J; PackageVersion: 4040047-3/M, 06/2011; PackageReference: D0008A; PackageDescription: 8-Pin Plastic Small Outline, Body 4.9 x 3.9 mm, Pitch 1.27 mm; Supplier 1: Digi-Key; Supplier Part Number 1: ISO722DG4-ND; Supplier 2: Mouser; Supplier Part Number 2: 595-ISO722DG4; Eco-Plan: Green (RoHS & no Sb/Br); SubFamily: Isolator; Thermal Shutdown: No; MountType: SMT; Code_JEDEC: MS-012; ComponentLink1Description: Manufacturer URL; ComponentLink1URL: http://www.ti.com/; ComponentLink2Description: Datasheet; ComponentLink2URL: http://www.ti.com/general/docs/lit/getliterature.tsp?genericPartNumber=ISO722&fileType=pdf; ComponentLink3Description: Package Specification; ComponentLink3URL: http://www.ti.com/litv/pdf/msoi002j; ComponentLink4Description: SamplesURL; ComponentLink4URL: http://www.ti.com/product/iso722#samples
footprint D0008A_N (SOIC, 8-Leads, Body 5x4mm, Pitch 1.27mm, IPC Medium Density)
footprint D0008A_L (SOIC, 8-Leads, Body 5x4mm, Pitch 1.27mm, IPC High Density)
footprint D0008A_M (SOIC, 8-Leads, Body 5x4mm, Pitch 1.27mm, IPC Low Density)
pins: 1 VCC1 (power), 2 IN (in), 3 VCC1 (power), 4 GND1 (power), 5 GND2 (power), 6 OUT (hiz), 7 ~{EN} (in), 8 VCC2 (power)

## ISO722DR
designator U?
100 Mbps Single Digital Isolator with Enable, 3.3 V / 5 V, -40 to +125 degC, 8-pin SOIC (D), Green (RoHS & no Sb/Br); Manufacturer: Texas Instruments; PartNumber: ISO722DR; Datarate(Mbps): 100; Input Noise Filter: Yes; Insulation Rating(VRMS): 2500; Prop Delay(Max)(ns): 24; Rating: Catalog; Supply Voltage(s)(V): 3.3, 5; TTL/CMOS Input Threshold: TTL; DatasheetVersion: SLLS629J; PackageVersion: 4040047-3/M, 06/2011; PackageReference: D0008A; PackageDescription: 8-Pin Plastic Small Outline, Body 4.9 x 3.9 mm, Pitch 1.27 mm; Supplier 1: Digi-Key; Supplier Part Number 1: 296-19768-2-ND; Supplier 2: Digi-Key; Supplier Part Number 2: 296-19768-1-ND; Supplier 3: Digi-Key; Supplier Part Number 3: 296-19768-6-ND; Supplier 4: Mouser; Supplier Part Number 4: 595-ISO722DR; Eco-Plan: Green (RoHS & no Sb/Br); SubFamily: Isolator; Thermal Shutdown: No; MountType: SMT; Code_JEDEC: MS-012; ComponentLink1Description: Manufacturer URL; ComponentLink1URL: http://www.ti.com/; ComponentLink2Description: Datasheet; ComponentLink2URL: http://www.ti.com/general/docs/lit/getliterature.tsp?genericPartNumber=ISO722&fileType=pdf; ComponentLink3Description: Package Specification; ComponentLink3URL: http://www.ti.com/litv/pdf/msoi002j; ComponentLink4Description: SamplesURL; ComponentLink4URL: http://www.ti.com/product/iso722#samples
footprint D0008A_N (SOIC, 8-Leads, Body 5x4mm, Pitch 1.27mm, IPC Medium Density)
footprint D0008A_L (SOIC, 8-Leads, Body 5x4mm, Pitch 1.27mm, IPC High Density)
footprint D0008A_M (SOIC, 8-Leads, Body 5x4mm, Pitch 1.27mm, IPC Low Density)
pins: 1 VCC1 (power), 2 IN (in), 3 VCC1 (power), 4 GND1 (power), 5 GND2 (power), 6 OUT (hiz), 7 ~{EN} (in), 8 VCC2 (power)

## ISO722DRG4
designator U?
100 Mbps Single Digital Isolator with Enable, 3.3 V / 5 V, -40 to +125 degC, 8-pin SOIC (D), Green (RoHS & no Sb/Br); Manufacturer: Texas Instruments; PartNumber: ISO722DRG4; Datarate(Mbps): 100; Input Noise Filter: Yes; Insulation Rating(VRMS): 2500; Prop Delay(Max)(ns): 24; Rating: Catalog; Supply Voltage(s)(V): 3.3, 5; TTL/CMOS Input Threshold: TTL; DatasheetVersion: SLLS629J; PackageVersion: 4040047-3/M, 06/2011; PackageReference: D0008A; PackageDescription: 8-Pin Plastic Small Outline, Body 4.9 x 3.9 mm, Pitch 1.27 mm; Supplier 1: Digi-Key; Supplier Part Number 1: ISO722DRG4-ND; Supplier 2: Mouser; Supplier Part Number 2: 595-ISO722DRG4; Eco-Plan: Green (RoHS & no Sb/Br); SubFamily: Isolator; Thermal Shutdown: No; MountType: SMT; Code_JEDEC: MS-012; ComponentLink1Description: Manufacturer URL; ComponentLink1URL: http://www.ti.com/; ComponentLink2Description: Datasheet; ComponentLink2URL: http://www.ti.com/general/docs/lit/getliterature.tsp?genericPartNumber=ISO722&fileType=pdf; ComponentLink3Description: Package Specification; ComponentLink3URL: http://www.ti.com/litv/pdf/msoi002j; ComponentLink4Description: SamplesURL; ComponentLink4URL: http://www.ti.com/product/iso722#samples
footprint D0008A_N (SOIC, 8-Leads, Body 5x4mm, Pitch 1.27mm, IPC Medium Density)
footprint D0008A_L (SOIC, 8-Leads, Body 5x4mm, Pitch 1.27mm, IPC High Density)
footprint D0008A_M (SOIC, 8-Leads, Body 5x4mm, Pitch 1.27mm, IPC Low Density)
pins: 1 VCC1 (power), 2 IN (in), 3 VCC1 (power), 4 GND1 (power), 5 GND2 (power), 6 OUT (hiz), 7 ~{EN} (in), 8 VCC2 (power)

## ISO722MD
designator U?
150 Mbps Single Digital Isolator with Enable, 3.3 V / 5 V, -40 to +125 degC, 8-pin SOIC (D), Green (RoHS & no Sb/Br); Manufacturer: Texas Instruments; PartNumber: ISO722MD; Datarate(Mbps): 150; Input Noise Filter: None; Insulation Rating(VRMS): 2500; Prop Delay(Max)(ns): 16; Rating: Catalog; Supply Voltage(s)(V): 3.3, 5; TTL/CMOS Input Threshold: CMOS; DatasheetVersion: SLLS629J; PackageVersion: 4040047-3/M, 06/2011; PackageReference: D0008A; PackageDescription: 8-Pin Plastic Small Outline, Body 4.9 x 3.9 mm, Pitch 1.27 mm; Supplier 1: Digi-Key; Supplier Part Number 1: 296-33301-5-ND; Supplier 2: Mouser; Supplier Part Number 2: 595-ISO722MD; Eco-Plan: Green (RoHS & no Sb/Br); SubFamily: Isolator; Thermal Shutdown: No; MountType: SMT; Code_JEDEC: MS-012; ComponentLink1Description: Manufacturer URL; ComponentLink1URL: http://www.ti.com/; ComponentLink2Description: Datasheet; ComponentLink2URL: http://www.ti.com/general/docs/lit/getliterature.tsp?genericPartNumber=ISO722M&fileType=pdf; ComponentLink3Description: Package Specification; ComponentLink3URL: http://www.ti.com/litv/pdf/msoi002j; ComponentLink4Description: SamplesURL; ComponentLink4URL: http://www.ti.com/product/iso722m#samples
footprint D0008A_N (SOIC, 8-Leads, Body 5x4mm, Pitch 1.27mm, IPC Medium Density)
footprint D0008A_L (SOIC, 8-Leads, Body 5x4mm, Pitch 1.27mm, IPC High Density)
footprint D0008A_M (SOIC, 8-Leads, Body 5x4mm, Pitch 1.27mm, IPC Low Density)
pins: 1 VCC1 (power), 2 IN (in), 3 VCC1 (power), 4 GND1 (power), 5 GND2 (power), 6 OUT (hiz), 7 ~{EN} (in), 8 VCC2 (power)

## ISO722MDG4
designator U?
150 Mbps Single Digital Isolator with Enable, 3.3 V / 5 V, -40 to +125 degC, 8-pin SOIC (D), Green (RoHS & no Sb/Br); Manufacturer: Texas Instruments; PartNumber: ISO722MDG4; Datarate(Mbps): 150; Input Noise Filter: None; Insulation Rating(VRMS): 2500; Prop Delay(Max)(ns): 16; Rating: Catalog; Supply Voltage(s)(V): 3.3, 5; TTL/CMOS Input Threshold: CMOS; DatasheetVersion: SLLS629J; PackageVersion: 4040047-3/M, 06/2011; PackageReference: D0008A; PackageDescription: 8-Pin Plastic Small Outline, Body 4.9 x 3.9 mm, Pitch 1.27 mm; Supplier 1: Digi-Key; Supplier Part Number 1: ISO722MDG4-ND; Supplier 2: Mouser; Supplier Part Number 2: 595-ISO722MDG4; Eco-Plan: Green (RoHS & no Sb/Br); SubFamily: Isolator; Thermal Shutdown: No; MountType: SMT; Code_JEDEC: MS-012; ComponentLink1Description: Manufacturer URL; ComponentLink1URL: http://www.ti.com/; ComponentLink2Description: Datasheet; ComponentLink2URL: http://www.ti.com/general/docs/lit/getliterature.tsp?genericPartNumber=ISO722M&fileType=pdf; ComponentLink3Description: Package Specification; ComponentLink3URL: http://www.ti.com/litv/pdf/msoi002j; ComponentLink4Description: SamplesURL; ComponentLink4URL: http://www.ti.com/product/iso722m#samples
footprint D0008A_N (SOIC, 8-Leads, Body 5x4mm, Pitch 1.27mm, IPC Medium Density)
footprint D0008A_L (SOIC, 8-Leads, Body 5x4mm, Pitch 1.27mm, IPC High Density)
footprint D0008A_M (SOIC, 8-Leads, Body 5x4mm, Pitch 1.27mm, IPC Low Density)
pins: 1 VCC1 (power), 2 IN (in), 3 VCC1 (power), 4 GND1 (power), 5 GND2 (power), 6 OUT (hiz), 7 ~{EN} (in), 8 VCC2 (power)

## ISO722MDR
designator U?
150 Mbps Single Digital Isolator with Enable, 3.3 V / 5 V, -40 to +125 degC, 8-pin SOIC (D), Green (RoHS & no Sb/Br); Manufacturer: Texas Instruments; PartNumber: ISO722MDR; Datarate(Mbps): 150; Input Noise Filter: None; Insulation Rating(VRMS): 2500; Prop Delay(Max)(ns): 16; Rating: Catalog; Supply Voltage(s)(V): 3.3, 5; TTL/CMOS Input Threshold: CMOS; DatasheetVersion: SLLS629J; PackageVersion: 4040047-3/M, 06/2011; PackageReference: D0008A; PackageDescription: 8-Pin Plastic Small Outline, Body 4.9 x 3.9 mm, Pitch 1.27 mm; Supplier 1: Digi-Key; Supplier Part Number 1: 296-19769-2-ND; Supplier 2: Digi-Key; Supplier Part Number 2: 296-19769-1-ND; Supplier 3: Digi-Key; Supplier Part Number 3: 296-19769-6-ND; Supplier 4: Mouser; Supplier Part Number 4: 595-ISO722MDR; Eco-Plan: Green (RoHS & no Sb/Br); SubFamily: Isolator; Thermal Shutdown: No; MountType: SMT; Code_JEDEC: MS-012; ComponentLink1Description: Manufacturer URL; ComponentLink1URL: http://www.ti.com/; ComponentLink2Description: Datasheet; ComponentLink2URL: http://www.ti.com/general/docs/lit/getliterature.tsp?genericPartNumber=ISO722M&fileType=pdf; ComponentLink3Description: Package Specification; ComponentLink3URL: http://www.ti.com/litv/pdf/msoi002j; ComponentLink4Description: SamplesURL; ComponentLink4URL: http://www.ti.com/product/iso722m#samples
footprint D0008A_N (SOIC, 8-Leads, Body 5x4mm, Pitch 1.27mm, IPC Medium Density)
footprint D0008A_L (SOIC, 8-Leads, Body 5x4mm, Pitch 1.27mm, IPC High Density)
footprint D0008A_M (SOIC, 8-Leads, Body 5x4mm, Pitch 1.27mm, IPC Low Density)
pins: 1 VCC1 (power), 2 IN (in), 3 VCC1 (power), 4 GND1 (power), 5 GND2 (power), 6 OUT (hiz), 7 ~{EN} (in), 8 VCC2 (power)

## ISO722MDRG4
designator U?
150 Mbps Single Digital Isolator with Enable, 3.3 V / 5 V, -40 to +125 degC, 8-pin SOIC (D), Green (RoHS & no Sb/Br); Manufacturer: Texas Instruments; PartNumber: ISO722MDRG4; Datarate(Mbps): 150; Input Noise Filter: None; Insulation Rating(VRMS): 2500; Prop Delay(Max)(ns): 16; Rating: Catalog; Supply Voltage(s)(V): 3.3, 5; TTL/CMOS Input Threshold: CMOS; DatasheetVersion: SLLS629J; PackageVersion: 4040047-3/M, 06/2011; PackageReference: D0008A; PackageDescription: 8-Pin Plastic Small Outline, Body 4.9 x 3.9 mm, Pitch 1.27 mm; Supplier 1: Digi-Key; Supplier Part Number 1: ISO722MDRG4-ND; Supplier 2: Mouser; Supplier Part Number 2: 595-ISO722MDRG4; Eco-Plan: Green (RoHS & no Sb/Br); SubFamily: Isolator; Thermal Shutdown: No; MountType: SMT; Code_JEDEC: MS-012; ComponentLink1Description: Manufacturer URL; ComponentLink1URL: http://www.ti.com/; ComponentLink2Description: Datasheet; ComponentLink2URL: http://www.ti.com/general/docs/lit/getliterature.tsp?genericPartNumber=ISO722M&fileType=pdf; ComponentLink3Description: Package Specification; ComponentLink3URL: http://www.ti.com/litv/pdf/msoi002j; ComponentLink4Description: SamplesURL; ComponentLink4URL: http://www.ti.com/product/iso722m#samples
footprint D0008A_N (SOIC, 8-Leads, Body 5x4mm, Pitch 1.27mm, IPC Medium Density)
footprint D0008A_L (SOIC, 8-Leads, Body 5x4mm, Pitch 1.27mm, IPC High Density)
footprint D0008A_M (SOIC, 8-Leads, Body 5x4mm, Pitch 1.27mm, IPC Low Density)
pins: 1 VCC1 (power), 2 IN (in), 3 VCC1 (power), 4 GND1 (power), 5 GND2 (power), 6 OUT (hiz), 7 ~{EN} (in), 8 VCC2 (power)